# EAGLE library part AT25SF041B-SSHB-B (library AT25SF041B-SSHB-B)
The AT25SF041B is a member of our standard class code and data storage solutions designed for 3V systems in which program code is shadowed from Flash memory into embedded or external RAM for execution.The architecture includes erase block sizes that are optimized to meet the needs of today's code and data storage applications and three security register pages for unique device serialization, system-level Electronic Serial Number (ESN) storage, locked key storage, etc. Universally compatible pinout and comma Source: Datasheet <https://www.renesas.com/us/en/products/memory-logic/non-volatile-memory/spi-nor-flash/dual-quad-spi-memory/at25sf041b-4mbit-27v-minimum-spi-serial-flash-memory-dual-io-support>
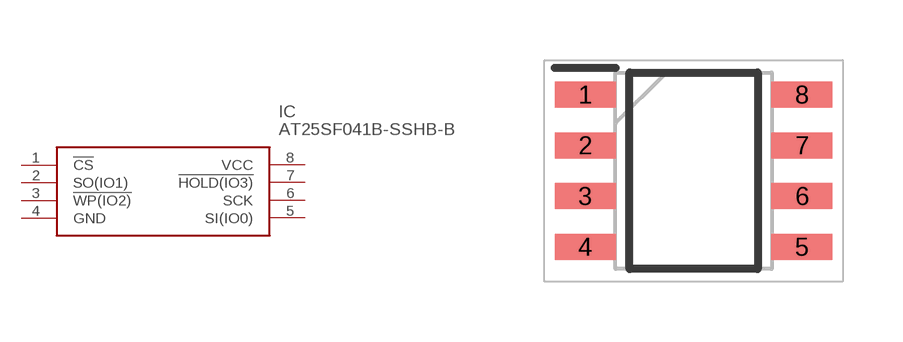
[diagram p0: symbol with the pads of SOIC127P600X175-8N; footprint SOIC127P600X175-8N]

Designator prefix IC

## AT25SF041B-SSHB-B (Description: The AT25SF041B is a member of our standard class code and data storage solutions designed for 3V systems in which program code is shadowed from Flash memory into embedded or external RAM for execution.The architecture includes erase block sizes that are optimized to meet the needs of today's code and data storage applications and three security register pages for unique device serialization, system-level Electronic Serial Number (ESN) storage, locked key storage, etc. Universally compatible pinout and comma; Height: 1.75mm; Manufacturer_Name: Renesas Electronics; Manufacturer_Part_Number: AT25SF041B-SSHB-B; Mouser_Part_Number: 988-AT25SF041-SSH-B; Mouser_Price-Stock: https://www.mouser.co.uk/ProductDetail/Renesas-Dialog/AT25SF041B-SSHB-B?qs=IS%252B4QmGtzzpXYmyz2tD79g%3D%3D)  [SOIC127P600X175-8N]
1  !CS
2  SO(IO1)
3  !WP(IO2)
4  GND
5  SI(IO0)
6  SCK
7  !HOLD(IO3)
8  VCC

## Footprint SOIC127P600X175-8N (pad centres in mm)
8S1 SOIC
smd 1.525 x 0.65: 1 -2.712,1.905; 2 -2.712,0.635; 3 -2.712,-0.635; 4 -2.712,-1.905; 5 2.712,-1.905; 6 2.712,-0.635; 7 2.712,0.635; 8 2.712,1.905